# Altium schematic symbol library Resistors-2010-Shunt.SchLib: 10 symbols
Pins are listed as number, name and electrical type; pins without a type are passive.

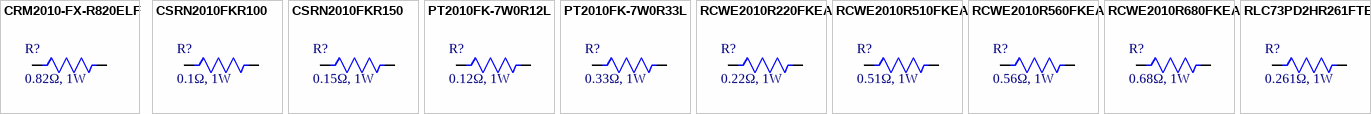
[diagram p0: symbols CRM2010-FX-R820ELF to RLC73PD2HR261FTE]

## CRM2010-FX-R820ELF
designator R?, comment 0.82Ω, 1W
RES 0.82 OHM 1% 1W 2010; Manufacturer: Bourns; Manufacturer Part Number: CRM2010-FX-R820ELF; Description: Resistor, thick film, SMD 2010 (5025), 820 mΩ, 1 W, ±1 %, CRM2010-FX-R820ELF; Value: 820mΩ; Temperature Coefficient: 100ppm/°C; Working Voltage: 954mV; Supplier: DigiKey; Supplier Part Number: 118-CRM2010-FX-R820ELFCT-ND; RoHS: Compliant; Category: Chip SMD Resistors; Stock: 580; Pricing: 1=0.38, 10=0.21, 25=0.1724, 50=0.1512, 100=0.1342, 250=0.11716, 500=0.10748, 1000=0.09944 (USD); Case/Package: 2010; China RoHS: Compliant; Composition: Thick Film; Height: 600µm; Length: 5.0038mm; Lifecycle Status: Production; Max Operating Temperature: 155°C; Max Power Dissipation: 1W; Min Operating Temperature: -55°C; Mounting Technology: Surface Mount; Number of Terminals: 2; Number of Terminations: 2; Packaging: Tape & Reel (TR); Power Dissipation: 1W; Power Rating: 1W; REACH SVHC: Yes; Tolerance: 1%; Width: 2.5mm; ComponentLink1URL: https://datasheet.octopart.com:443/CRM2010-FX-R820ELF-Bourns-datasheet-182141858.pdf?src-supplier=Master+Electronics; ComponentLink1Description: https://datasheet.octopart.com:443/CRM2010-FX-R820ELF-Bourns-datasheet-182141858.pdf?src-supplier=Master+Electronics; ComponentLink2URL: https://datasheet.octopart.com:443/CRM2010-FX-R820ELF-Bourns-datasheet-164353756.pdf?src-supplier=Newark; ComponentLink2Description: https://datasheet.octopart.com:443/CRM2010-FX-R820ELF-Bourns-datasheet-164353756.pdf?src-supplier=Newark; ComponentLink3URL: https://datasheet.octopart.com:443/CRM2010-FX-R820ELF-Bourns-datasheet-68302004.pdf?src-supplier=Electro+Sonic; ComponentLink3Description: https://datasheet.octopart.com:443/CRM2010-FX-R820ELF-Bourns-datasheet-68302004.pdf?src-supplier=Electro+Sonic; ComponentLink4URL: https://datasheet.octopart.com:443/CRM2010-FX-R820ELF-Bourns-datasheet-97424573.pdf?src-supplier=Burklin+Elektronik; ComponentLink4Description: https://datasheet.octopart.com:443/CRM2010-FX-R820ELF-Bourns-datasheet-97424573.pdf?src-supplier=Burklin+Elektronik; ComponentLink5URL: http://sigma.octopart.com:80/conflict_mineral_statement/Bourns-company-36.pdf?src-supplier=Compliance+Statements; ComponentLink5Description: http://sigma.octopart.com:80/conflict_mineral_statement/Bourns-company-36.pdf?src-supplier=Compliance+Statements
footprint 2010-REFLOW
footprint 2010-WAVE
pins: 1, 2

## CSRN2010FKR100
designator R?, comment 0.1Ω, 1W
RES 0.1 OHM 1% 1W 2010; Manufacturer: Stackpole Electronics; Manufacturer Part Number: CSRN2010FKR100; Value: 100mΩ; Temperature Coefficient: 200ppm/°C; Working Voltage: 316.2mV; Supplier: DigiKey; Supplier Part Number: CSRN2010FKR100CT-ND; RoHS: Compliant; Category: Chip SMD Resistors; Stock: 11233; Pricing: 1=0.42, 10=0.211, 25=0.2036, 50=0.186, 100=0.1691 (USD); Case/Package: 2010; Case Code (Imperial): 2010; Case Code (Metric): 5025; Composition: Thick Film; Contact Plating: Tin; Height: 600µm; Lead Free: Lead Free; Length: 5.0038mm; Lifecycle Status: Production; Max Operating Temperature: 155°C; Max Power Dissipation: 1W; Min Operating Temperature: -55°C; Mounting Technology: Surface Mount; Number of Terminals: 2; Number of Terminations: 2; Packaging: Cut Tape (CT); Power Dissipation: 1W; Power Rating: 1W; Radiation Hardening: No; REACH SVHC: Yes; Schedule B: 8533210045, 8533210045|8533210045|8533210045|8533210045|8533210045; Tolerance: 1%; Width: 2.45mm; ComponentLink1URL: https://datasheet.octopart.com:443/CSRN2010FKR100-Stackpole-Electronics-datasheet-170576569.pdf?src-supplier=IHS; ComponentLink1Description: https://datasheet.octopart.com:443/CSRN2010FKR100-Stackpole-Electronics-datasheet-170576569.pdf?src-supplier=IHS; ComponentLink2URL: https://datasheet.octopart.com:443/CSRN2010FKR100-Stackpole-Electronics-datasheet-12549637.pdf?src-supplier=Upverter; ComponentLink2Description: https://datasheet.octopart.com:443/CSRN2010FKR100-Stackpole-Electronics-datasheet-12549637.pdf?src-supplier=Upverter; ComponentLink3URL: https://datasheet.octopart.com:443/CSRN2010FKR100-Stackpole-Electronics-datasheet-12522144.pdf?src-supplier=Stackpole+Electronics; ComponentLink3Description: https://datasheet.octopart.com:443/CSRN2010FKR100-Stackpole-Electronics-datasheet-12522144.pdf?src-supplier=Stackpole+Electronics; ComponentLink4URL: https://datasheet.octopart.com:443/CSRN2010FKR100-Stackpole-Electronics-datasheet-141193797.pdf?src-supplier=Stackpole+Electronics; ComponentLink4Description: https://datasheet.octopart.com:443/CSRN2010FKR100-Stackpole-Electronics-datasheet-141193797.pdf?src-supplier=Stackpole+Electronics; ComponentLink5URL: http://sigma.octopart.com:80/15940493/materials_sheet/Stackpole-Electronics-CSRN2010FKR100.pdf?src-supplier=Compliance+Statements; ComponentLink5Description: http://sigma.octopart.com:80/15940493/materials_sheet/Stackpole-Electronics-CSRN2010FKR100.pdf?src-supplier=Compliance+Statements; ComponentLink6URL: http://sigma.octopart.com:80/141158211/reach_statement/Stackpole-Electronics-CSRN2010FKR100.pdf?src-supplier=Compliance+Statements; ComponentLink6Description: http://sigma.octopart.com:80/141158211/reach_statement/Stackpole-Electronics-CSRN2010FKR100.pdf?src-supplier=Compliance+Statements; ComponentLink7URL: http://sigma.octopart.com:80/141158212/rohs_statement/Stackpole-Electronics-CSRN2010FKR100.pdf?src-supplier=Compliance+Statements; ComponentLink7Description: http://sigma.octopart.com:80/141158212/rohs_statement/Stackpole-Electronics-CSRN2010FKR100.pdf?src-supplier=Compliance+Statements
footprint 2010-REFLOW
footprint 2010-WAVE
pins: 1, 2

## CSRN2010FKR150
designator R?, comment 0.15Ω, 1W
RES 0.15 OHM 1% 1W 2010; Manufacturer: Stackpole Electronics; Manufacturer Part Number: CSRN2010FKR150; Value: 150mΩ; Temperature Coefficient: 200ppm/°C; Working Voltage: 387.3mV; Supplier: DigiKey; Supplier Part Number: CSRN2010FKR150CT-ND; RoHS: Compliant; Category: Chip SMD Resistors; Stock: 26759; Pricing: 1=0.5, 10=0.3, 25=0.254, 50=0.2362, 100=0.2153, 250=0.18688, 500=0.1691 (USD); Case/Package: 2010; Case Code (Imperial): 2010; Case Code (Metric): 5025; Composition: Thick Film; Height: 600µm; Length: 5.0038mm; Lifecycle Status: Production; Max Operating Temperature: 155°C; Max Power Dissipation: 1W; Min Operating Temperature: -55°C; Mounting Technology: Surface Mount; Number of Terminals: 2; Number of Terminations: 2; Packaging: Cut Tape (CT); Power Dissipation: 1W; Power Rating: 1W; REACH SVHC: Yes; Schedule B: 8533210045, 8533210045|8533210045|8533210045|8533210045|8533210045; Tolerance: 1%; Width: 2.45mm; ComponentLink1URL: https://datasheet.octopart.com:443/CSRN2010FKR150-Stackpole-Electronics-datasheet-170576569.pdf?src-supplier=IHS; ComponentLink1Description: https://datasheet.octopart.com:443/CSRN2010FKR150-Stackpole-Electronics-datasheet-170576569.pdf?src-supplier=IHS; ComponentLink2URL: https://datasheet.octopart.com:443/CSRN2010FKR150-Stackpole-Electronics-datasheet-12549637.pdf?src-supplier=Upverter; ComponentLink2Description: https://datasheet.octopart.com:443/CSRN2010FKR150-Stackpole-Electronics-datasheet-12549637.pdf?src-supplier=Upverter; ComponentLink3URL: https://datasheet.octopart.com:443/CSRN2010FKR150-Stackpole-Electronics-datasheet-141193797.pdf?src-supplier=LKR; ComponentLink3Description: https://datasheet.octopart.com:443/CSRN2010FKR150-Stackpole-Electronics-datasheet-141193797.pdf?src-supplier=LKR; ComponentLink4URL: https://datasheet.octopart.com:443/CSRN2010FKR150-Stackpole-Electronics-datasheet-130008997.pdf?src-supplier=LKR; ComponentLink4Description: https://datasheet.octopart.com:443/CSRN2010FKR150-Stackpole-Electronics-datasheet-130008997.pdf?src-supplier=LKR; ComponentLink5URL: https://datasheet.octopart.com:443/CSRN2010FKR150-Stackpole-Electronics-datasheet-12522144.pdf?src-supplier=Stackpole+Electronics; ComponentLink5Description: https://datasheet.octopart.com:443/CSRN2010FKR150-Stackpole-Electronics-datasheet-12522144.pdf?src-supplier=Stackpole+Electronics; ComponentLink6URL: http://sigma.octopart.com:80/15940493/materials_sheet/Stackpole-Electronics-CSRN2010FKR150.pdf?src-supplier=Compliance+Statements; ComponentLink6Description: http://sigma.octopart.com:80/15940493/materials_sheet/Stackpole-Electronics-CSRN2010FKR150.pdf?src-supplier=Compliance+Statements; ComponentLink7URL: http://sigma.octopart.com:80/141158212/rohs_statement/Stackpole-Electronics-CSRN2010FKR150.pdf?src-supplier=Compliance+Statements; ComponentLink7Description: http://sigma.octopart.com:80/141158212/rohs_statement/Stackpole-Electronics-CSRN2010FKR150.pdf?src-supplier=Compliance+Statements; ComponentLink8URL: http://sigma.octopart.com:80/141158211/reach_statement/Stackpole-Electronics-CSRN2010FKR150.pdf?src-supplier=Compliance+Statements; ComponentLink8Description: http://sigma.octopart.com:80/141158211/reach_statement/Stackpole-Electronics-CSRN2010FKR150.pdf?src-supplier=Compliance+Statements
footprint 2010-REFLOW
footprint 2010-WAVE
pins: 1, 2

## PT2010FK-7W0R12L
designator R?, comment 0.12Ω, 1W
RES 0.12 OHM 1% 1W 2010; Manufacturer: Yageo Group; Manufacturer Part Number: PT2010FK-7W0R12L; Value: 120mΩ; Temperature Coefficient: 75ppm/°C; Working Voltage: 346mV; Supplier: DigiKey; Supplier Part Number: 13-PT2010FK-7W0R12LCT-ND; RoHS: Compliant; Category: Chip SMD Resistors; Stock: 2; Pricing: 1=0.59, 10=0.382, 25=0.3244, 50=0.2886, 100=0.258, 250=0.22448, 500=0.2035, 1000=0.18565 (USD); Case/Package: 2010; Composition: Thick Film; Features: Automotive AEC-Q200, Moisture Resistant; Height: 550µm; Length: 5.0038mm; Lifecycle Status: Production; Max Operating Temperature: 155°C; Max Power Dissipation: 1W; Min Operating Temperature: -55°C; Mounting Technology: Surface Mount; Number of Terminals: 2; Number of Terminations: 2; Power Dissipation: 1W; REACH SVHC: Yes; Tolerance: 1%; Width: 2.5mm; ComponentLink1URL: https://datasheet.octopart.com:443/PT2010FK-7W0R12L-Yageo-datasheet-182189530.pdf?src-supplier=IHS; ComponentLink1Description: https://datasheet.octopart.com:443/PT2010FK-7W0R12L-Yageo-datasheet-182189530.pdf?src-supplier=IHS; ComponentLink2URL: https://datasheet.octopart.com:443/PT2010FK-7W0R12L-Yageo-datasheet-137700561.pdf?src-supplier=Newark; ComponentLink2Description: https://datasheet.octopart.com:443/PT2010FK-7W0R12L-Yageo-datasheet-137700561.pdf?src-supplier=Newark; ComponentLink3URL: https://datasheet.octopart.com/PT2010FK-7W0R12L-Yageo-datasheet-86814862.pdf; ComponentLink3Description: https://datasheet.octopart.com/PT2010FK-7W0R12L-Yageo-datasheet-86814862.pdf; ComponentLink4URL: http://sigma.octopart.com:80/conflict_mineral_statement/Yageo-company-3.pdf?src-supplier=Compliance+Statements; ComponentLink4Description: http://sigma.octopart.com:80/conflict_mineral_statement/Yageo-company-3.pdf?src-supplier=Compliance+Statements; ComponentLink5URL: http://sigma.octopart.com:80/rohs_statement/Yageo-company-2.pdf?src-supplier=Compliance+Statements; ComponentLink5Description: http://sigma.octopart.com:80/rohs_statement/Yageo-company-2.pdf?src-supplier=Compliance+Statements
footprint 2010-REFLOW
footprint 2010-WAVE
pins: 1, 2

## PT2010FK-7W0R33L
designator R?, comment 0.33Ω, 1W
RES 0.33 OHM 1% 1W 2010; Manufacturer: Yageo Group; Manufacturer Part Number: PT2010FK-7W0R33L; Description: Res Thick Film 2010 0.33 Ohm 1% 1W ±75ppm/C Pad SMD Automotive T/R; Value: 330mΩ; Temperature Coefficient: 75ppm/°C; Working Voltage: 574mV; Supplier: DigiKey; Supplier Part Number: 311-0.33AQCT-ND; RoHS: Compliant; Category: Chip SMD Resistors; Stock: 8692; Pricing: 1=0.64, 10=0.417, 25=0.3544, 50=0.3154, 100=0.2823, 250=0.24588, 500=0.22308, 1000=0.20371 (USD); Case/Package: 2010; China RoHS: Non-Compliant; Height: 550µm; Lead Free: Lead Free; Lifecycle Status: Production; Max Operating Temperature: 155°C; Min Operating Temperature: -55°C; Mounting Technology: Surface Mount; Number of Terminals: 2; Power Dissipation: 1W; REACH SVHC: Yes; Schedule B: 8533210045, 8533210045|8533210045|8533210045|8533210045|8533210045; Tolerance: 1%; Width: 2.5mm; ComponentLink1URL: https://datasheet.octopart.com:443/PT2010FK-7W0R33L-Yageo-datasheet-182189530.pdf?src-supplier=IHS; ComponentLink1Description: https://datasheet.octopart.com:443/PT2010FK-7W0R33L-Yageo-datasheet-182189530.pdf?src-supplier=IHS; ComponentLink2URL: https://datasheet.octopart.com:443/PT2010FK-7W0R33L-Yageo-datasheet-137700561.pdf?src-supplier=Farnell; ComponentLink2Description: https://datasheet.octopart.com:443/PT2010FK-7W0R33L-Yageo-datasheet-137700561.pdf?src-supplier=Farnell; ComponentLink3URL: https://datasheet.octopart.com:443/PT2010FK-7W0R33L-Yageo-Group-datasheet-190382415.pdf?src-supplier=Farnell; ComponentLink3Description: https://datasheet.octopart.com:443/PT2010FK-7W0R33L-Yageo-Group-datasheet-190382415.pdf?src-supplier=Farnell; ComponentLink4URL: https://datasheet.octopart.com:443/PT2010FK-7W0R33L-Yageo-datasheet-128681935.pdf?src-supplier=X-ON; ComponentLink4Description: https://datasheet.octopart.com:443/PT2010FK-7W0R33L-Yageo-datasheet-128681935.pdf?src-supplier=X-ON; ComponentLink5URL: https://datasheet.octopart.com/PT2010FK-7W0R33L-Yageo-datasheet-86814862.pdf; ComponentLink5Description: https://datasheet.octopart.com/PT2010FK-7W0R33L-Yageo-datasheet-86814862.pdf; ComponentLink6URL: https://datasheet.octopart.com:443/PT2010FK-7W0R33L-Yageo-datasheet-14431055.pdf?src-supplier=Factory+Futures; ComponentLink6Description: https://datasheet.octopart.com:443/PT2010FK-7W0R33L-Yageo-datasheet-14431055.pdf?src-supplier=Factory+Futures; ComponentLink7URL: http://sigma.octopart.com:80/conflict_mineral_statement/Yageo-company-3.pdf?src-supplier=Compliance+Statements; ComponentLink7Description: http://sigma.octopart.com:80/conflict_mineral_statement/Yageo-company-3.pdf?src-supplier=Compliance+Statements; ComponentLink8URL: http://sigma.octopart.com:80/rohs_statement/Yageo-company-2.pdf?src-supplier=Compliance+Statements; ComponentLink8Description: http://sigma.octopart.com:80/rohs_statement/Yageo-company-2.pdf?src-supplier=Compliance+Statements
footprint 2010-REFLOW
footprint 2010-WAVE
pins: 1, 2

## RCWE2010R220FKEA
designator R?, comment 0.22Ω, 1W
RES 0.22 OHM 1% 1W 2010; Manufacturer: Vishay; Manufacturer Part Number: RCWE2010R220FKEA; Value: 220mΩ; Temperature Coefficient: 100ppm/°C; Working Voltage: 469mV; Supplier: DigiKey; Supplier Part Number: 541-RCWE2010R220FKEACT-ND; RoHS: Compliant; Category: Chip SMD Resistors; Stock: 303; Pricing: 1=0.65, 10=0.417, 25=0.3544, 50=0.3156, 100=0.2824, 250=0.24596, 500=0.22314, 1000=0.20376 (USD); Case/Package: 2010; China RoHS: Non-Compliant; Composition: Thick Film; Features: Automotive AEC-Q200, Moisture Resistant; Height: 600µm; Length: 5.0038mm; Lifecycle Status: Production; Max Operating Temperature: 155°C; Max Power Dissipation: 1W; Min Operating Temperature: -55°C; Mounting Technology: Surface Mount; Number of Terminals: 2; Number of Terminations: 2; Power Dissipation: 1W; REACH SVHC: Yes; Tolerance: 1%; Width: 2.5mm; ComponentLink1URL: https://datasheet.octopart.com:443/RCWE2010R220FKEA-Vishay-datasheet-170667730.pdf?src-supplier=IHS; ComponentLink1Description: https://datasheet.octopart.com:443/RCWE2010R220FKEA-Vishay-datasheet-170667730.pdf?src-supplier=IHS; ComponentLink2URL: http://sigma.octopart.com:80/rohs_statement/Vishay-company-15.pdf?src-supplier=Compliance+Statements; ComponentLink2Description: http://sigma.octopart.com:80/rohs_statement/Vishay-company-15.pdf?src-supplier=Compliance+Statements
footprint 2010-REFLOW
footprint 2010-WAVE
pins: 1, 2

## RCWE2010R510FKEA
designator R?, comment 0.51Ω, 1W
RES 0.51 OHM 1% 1W 2010; Manufacturer: Vishay; Manufacturer Part Number: RCWE2010R510FKEA; Description: Res Thick Film 2010 0.51 Ohm 1% 1W 100ppm/C Sulfur Resistant Pad SMD T/R Automotive AEC-Q200; Value: 510mΩ; Temperature Coefficient: 100ppm/°C; Working Voltage: 714.1mV; Supplier: DigiKey; Supplier Part Number: RCWE.51GCT-ND; RoHS: Compliant; Category: Chip SMD Resistors; Stock: 6435; Pricing: 1=0.65, 10=0.417, 25=0.3544, 50=0.3156, 100=0.2824, 250=0.24596, 500=0.22314, 1000=0.20376 (USD); Case/Package: 2010; Case Code (Imperial): 2010; Case Code (Metric): 5025; China RoHS: Non-Compliant; Composition: Thick Film; Contact Plating: Tin; Features: Automotive AEC-Q200, Moisture Resistant; Height: 600µm; Length: 5.0038mm; Lifecycle Status: Production; Max Operating Temperature: 155°C; Max Power Dissipation: 1W; Min Operating Temperature: -55°C; Mounting Technology: Surface Mount; Pins: 2; Number of Terminals: 2; Number of Terminations: 2; Power Dissipation: 1W; Power Rating: 1W; Radiation Hardening: No; REACH SVHC: Yes; Schedule B: 8533210045, 8533210045|8533210045|8533210045|8533210045|8533210045; Termination: SMD/SMT; Tolerance: 1%; Width: 2.5mm; ComponentLink1URL: https://datasheet.octopart.com:443/RCWE2010R510FKEA-Vishay-datasheet-170667730.pdf?src-supplier=IHS; ComponentLink1Description: https://datasheet.octopart.com:443/RCWE2010R510FKEA-Vishay-datasheet-170667730.pdf?src-supplier=IHS; ComponentLink2URL: https://datasheet.octopart.com:443/RCWE2010R510FKEA-Vishay-datasheet-78835242.pdf?src-supplier=Newark; ComponentLink2Description: https://datasheet.octopart.com:443/RCWE2010R510FKEA-Vishay-datasheet-78835242.pdf?src-supplier=Newark; ComponentLink3URL: https://datasheet.octopart.com:443/RCWE2010R510FKEA-Vishay-datasheet-10025643.pdf?src-supplier=element14+APAC; ComponentLink3Description: https://datasheet.octopart.com:443/RCWE2010R510FKEA-Vishay-datasheet-10025643.pdf?src-supplier=element14+APAC; ComponentLink4URL: http://sigma.octopart.com:80/rohs_statement/Vishay-company-15.pdf?src-supplier=Compliance+Statements; ComponentLink4Description: http://sigma.octopart.com:80/rohs_statement/Vishay-company-15.pdf?src-supplier=Compliance+Statements
footprint 2010-REFLOW
footprint 2010-WAVE
pins: 1, 2

## RCWE2010R560FKEA
designator R?, comment 0.56Ω, 1W
RES 0.56 OHM 1% 1W 2010; Manufacturer: Vishay; Manufacturer Part Number: RCWE2010R560FKEA; Description: Res Current Sense Thick Film 2010 0.56 Ohm 1% 1W ±100ppm/°C Molded Emboss T/R; Value: 560mΩ; Temperature Coefficient: 100ppm/°C; Working Voltage: 748.3mV; Supplier: DigiKey; Supplier Part Number: 541-4293-1-ND; RoHS: Compliant; Category: Chip SMD Resistors; Stock: 25030; Pricing: 1=0.65, 10=0.417, 25=0.3544, 50=0.3156, 100=0.2824, 250=0.24596, 500=0.22314, 1000=0.20376 (USD); Case/Package: 2010; Case Code (Imperial): 2010; Case Code (Metric): 5025; China RoHS: Non-Compliant; Composition: Thick Film; Features: Automotive AEC-Q200, Moisture Resistant; Height: 600µm; Length: 5.0038mm; Lifecycle Status: Production; Max Operating Temperature: 155°C; Max Power Dissipation: 1W; Min Operating Temperature: -55°C; Mounting Technology: Surface Mount; Pins: 2; Number of Terminals: 2; Number of Terminations: 2; Power Dissipation: 1W; Power Rating: 1W; REACH SVHC: Yes; Schedule B: 8533210045, 8533210045|8533210045|8533210045|8533210045|8533210045|8533210045|8533210045|8533210045|8533210045|8533210045|8533210045|8533210045|8533210045|8533210045|8533210045|8533210045|8533210045|8533210045|8533210045|8533210045|8533210045|8533210045|8533210045|85; Termination: SMD/SMT; Tolerance: 1%; Width: 2.5mm; ComponentLink1URL: https://datasheet.octopart.com:443/RCWE2010R560FKEA-Vishay-datasheet-170667730.pdf?src-supplier=Newark; ComponentLink1Description: https://datasheet.octopart.com:443/RCWE2010R560FKEA-Vishay-datasheet-170667730.pdf?src-supplier=Newark; ComponentLink2URL: https://datasheet.octopart.com:443/RCWE2010R560FKEA-Vishay-datasheet-62321200.pdf?src-supplier=Farnell; ComponentLink2Description: https://datasheet.octopart.com:443/RCWE2010R560FKEA-Vishay-datasheet-62321200.pdf?src-supplier=Farnell; ComponentLink3URL: https://datasheet.octopart.com:443/RCWE2010R560FKEA-Vishay-datasheet-10025643.pdf?src-supplier=element14+APAC; ComponentLink3Description: https://datasheet.octopart.com:443/RCWE2010R560FKEA-Vishay-datasheet-10025643.pdf?src-supplier=element14+APAC; ComponentLink4URL: https://datasheet.octopart.com:443/RCWE2010R560FKEA-Vishay-datasheet-99353836.pdf?src-supplier=Future+Electronics; ComponentLink4Description: https://datasheet.octopart.com:443/RCWE2010R560FKEA-Vishay-datasheet-99353836.pdf?src-supplier=Future+Electronics; ComponentLink5URL: http://sigma.octopart.com:80/rohs_statement/Vishay-company-15.pdf?src-supplier=Compliance+Statements; ComponentLink5Description: http://sigma.octopart.com:80/rohs_statement/Vishay-company-15.pdf?src-supplier=Compliance+Statements
footprint 2010-REFLOW
footprint 2010-WAVE
pins: 1, 2

## RCWE2010R680FKEA
designator R?, comment 0.68Ω, 1W
RES 0.68 OHM 1% 1W 2010; Manufacturer: Vishay; Manufacturer Part Number: RCWE2010R680FKEA; Description: Res Thick Film 2010 0.68 Ohm 1% 1W ±100ppm/C Sulfur Resistant Pad SMD Automotive T/R; Value: 680mΩ; Temperature Coefficient: 100ppm/°C; Working Voltage: 824.6mV; Supplier: DigiKey; Supplier Part Number: RCWE.68GCT-ND; RoHS: Compliant; Category: Chip SMD Resistors; Stock: 23993; Pricing: 1=0.65, 10=0.417, 25=0.3544, 50=0.3156, 100=0.2824, 250=0.24596, 500=0.22314, 1000=0.20376 (USD); Case/Package: 2010; Case Code (Imperial): 2010; Case Code (Metric): 5025; China RoHS: Non-Compliant; Composition: Thick Film; Contact Plating: Tin; Features: Automotive AEC-Q200, Moisture Resistant; Height: 600µm; Lead Free: Lead Free; Length: 5.0038mm; Lifecycle Status: Production; Max Operating Temperature: 155°C; Max Power Dissipation: 1W; Min Operating Temperature: -55°C; Mounting Technology: Surface Mount; Pins: 2; Number of Terminals: 2; Number of Terminations: 2; Power Dissipation: 1W; Power Rating: 1W; Radiation Hardening: No; REACH SVHC: Yes; Schedule B: 8533210045, 8533210045|8533210045|8533210045|8533210045|8533210045; Termination: SMD/SMT; Tolerance: 1%; Width: 2.5mm; ComponentLink1URL: https://datasheet.octopart.com:443/RCWE2010R680FKEA-Vishay-datasheet-170667730.pdf?src-supplier=IHS; ComponentLink1Description: https://datasheet.octopart.com:443/RCWE2010R680FKEA-Vishay-datasheet-170667730.pdf?src-supplier=IHS; ComponentLink2URL: https://datasheet.octopart.com:443/RCWE2010R680FKEA-Vishay-datasheet-62321200.pdf?src-supplier=Newark; ComponentLink2Description: https://datasheet.octopart.com:443/RCWE2010R680FKEA-Vishay-datasheet-62321200.pdf?src-supplier=Newark; ComponentLink3URL: https://datasheet.octopart.com:443/RCWE2010R680FKEA-Vishay-datasheet-10025643.pdf?src-supplier=element14+APAC; ComponentLink3Description: https://datasheet.octopart.com:443/RCWE2010R680FKEA-Vishay-datasheet-10025643.pdf?src-supplier=element14+APAC; ComponentLink4URL: https://datasheet.octopart.com:443/RCWE2010R680FKEA-Vishay-datasheet-13263558.pdf?src-supplier=Future+Electronics; ComponentLink4Description: https://datasheet.octopart.com:443/RCWE2010R680FKEA-Vishay-datasheet-13263558.pdf?src-supplier=Future+Electronics; ComponentLink5URL: https://datasheet.octopart.com:443/RCWE2010R680FKEA-Vishay-datasheet-13248156.pdf?src-supplier=Future+Electronics; ComponentLink5Description: https://datasheet.octopart.com:443/RCWE2010R680FKEA-Vishay-datasheet-13248156.pdf?src-supplier=Future+Electronics; ComponentLink6URL: https://datasheet.octopart.com:443/RCWE2010R680FKEA-Vishay-datasheet-12556293.pdf?src-supplier=Future+Electronics; ComponentLink6Description: https://datasheet.octopart.com:443/RCWE2010R680FKEA-Vishay-datasheet-12556293.pdf?src-supplier=Future+Electronics; ComponentLink7URL: https://datasheet.octopart.com:443/RCWE2010R680FKEA-Vishay-datasheet-12513971.pdf?src-supplier=Future+Electronics; ComponentLink7Description: https://datasheet.octopart.com:443/RCWE2010R680FKEA-Vishay-datasheet-12513971.pdf?src-supplier=Future+Electronics; ComponentLink8URL: http://sigma.octopart.com:80/rohs_statement/Vishay-company-15.pdf?src-supplier=Compliance+Statements; ComponentLink8Description: http://sigma.octopart.com:80/rohs_statement/Vishay-company-15.pdf?src-supplier=Compliance+Statements
footprint 2010-REFLOW
footprint 2010-WAVE
pins: 1, 2

## RLC73PD2HR261FTE
designator R?, comment 0.261Ω, 1W
RES 0.261 OHM 1% 1W 2010; Manufacturer: TE Connectivity / CGS; Manufacturer Part Number: RLC73PD2HR261FTE; Description: Fixed Resistor, Thick Film, 1W, 1% +/-Tol, 50ppm/Cel, 2010; Temperature Coefficient: 50ppm/°C; Value: 261mΩ; Supplier: DigiKey; Supplier Part Number: 1712-RLC73PD2HR261FTECT-ND; RoHS: Compliant; Category: Chip SMD Resistors; Stock: 3940; Pricing: 1=0.48, 10=0.311, 25=0.264, 50=0.2344, 100=0.2092, 250=0.18152, 500=0.1642, 1000=0.14948 (USD); China RoHS: Compliant; Lifecycle Status: Production; Max Operating Temperature: 155°C; Min Operating Temperature: -55°C; Number of Terminals: 2; Power Dissipation: 1W; Power Rating: 1W; REACH SVHC: Yes; Tolerance: 1%; ComponentLink1URL: https://datasheet.octopart.com:443/RLC73PD2HR261FTE-TE-Connectivity-datasheet-184924493.pdf?src-supplier=IHS; ComponentLink1Description: https://datasheet.octopart.com:443/RLC73PD2HR261FTE-TE-Connectivity-datasheet-184924493.pdf?src-supplier=IHS; ComponentLink2URL: https://datasheet.octopart.com:443/RLC73PD2HR261FTE-CGS-datasheet-169092836.pdf?src-supplier=TE+Connectivity; ComponentLink2Description: https://datasheet.octopart.com:443/RLC73PD2HR261FTE-CGS-datasheet-169092836.pdf?src-supplier=TE+Connectivity; ComponentLink3URL: https://sigma.octopart.com:443/169093038/technical_drawing/TE-Connectivity-RLC73PD2HR261FTE.pdf?src-supplier=TE+Connectivity; ComponentLink3Description: https://sigma.octopart.com:443/169093038/technical_drawing/TE-Connectivity-RLC73PD2HR261FTE.pdf?src-supplier=TE+Connectivity
footprint 2010-REFLOW
footprint 2010-WAVE
pins: 1, 2